# Altium schematic symbol library Schlib1.SchLib: 2 symbols
Pins are listed as number, name and electrical type; pins without a type are passive.

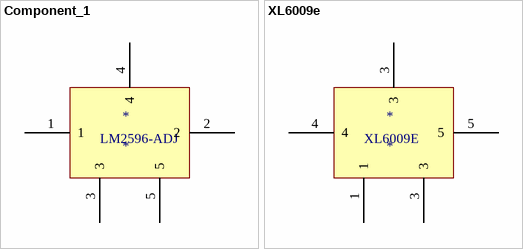
[diagram p0: symbols Component_1 to XL6009e]

## Component_1
designator *
pins: 1, 2, 3, 4, 5
text: LM2596-ADJ

## XL6009e
designator *
pins: 1, 3, 3, 4, 5
text: XL6009E